# Altium integrated library AFE4490.IntLib: 1 symbol
Pins are listed as number, name and electrical type; pins without a type are passive.

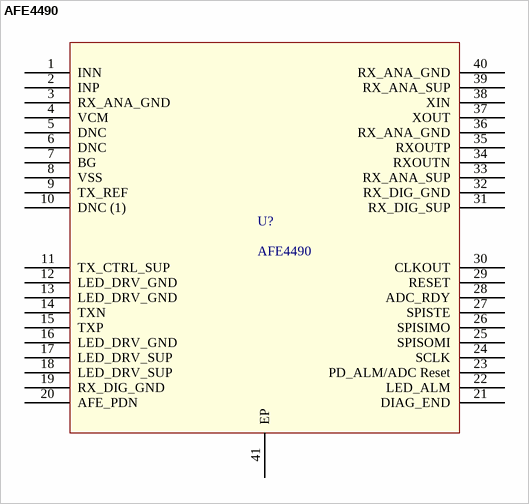
[diagram p0: symbol AFE4490]

## AFE4490
designator U?
Integrated Analog Front-End for Pulse Oximeters
footprint AFE4490QFN50P680X680X100_HS-41N (Integrated Analog Front-End for Pulse Oximeters AFE4490 Footprint)
pins: 1 INN "Receiver input pin. Connect to photodiode anode.", 2 INP "Receiver input pin. Connect to photodiode cathode.", 3 RX_ANA_GND "Rx analog ground pin. Connect to common board ground.", 4 VCM ""Input common-mode voltage output.", 5 DNC "Do not connect these pins. Leave as open-circuit.", 6 DNC "Do not connect these pins. Leave as open-circuit.", 7 BG ""Decoupling capacitor for internal band-gap voltage to ground", 8 VSS "Substrate ground. Connect to common board ground.", 9 TX_REF "Transmitter reference voltage, 0.75 V default after reset. Connect a 2.2-µF decoupling capacitor to ground.", 10 DNC (1) "Do not connect these pins. Leave as open-circuit.", 11 TX_CTRL_SUP "Transmit control supply pin (0.1-µF decoupling capacitor to ground)", 12 LED_DRV_GND "LED driver ground pin, H-bridge. Connect to common board ground.", 13 LED_DRV_GND "LED driver ground pin, H-bridge. Connect to common board ground.", 14 TXN "LED driver out B, H-bridge output. Connect to LED.", 15 TXP "LED driver out B, H-bridge output. Connect to LED.", 16 LED_DRV_GND "LED driver ground pin, H-bridge. Connect to common board ground.", 17 LED_DRV_SUP "LED driver supply pin, H-bridge. Connect to an external power supply capable of supplying the large LED current, which is drawn by this supply pin.", 18 LED_DRV_SUP "LED driver supply pin, H-bridge. Connect to an external power supply capable of supplying the large LED current, which is drawn by this supply pin.", 19 RX_DIG_GND, 20 AFE_PDN ""AFE-only power-down input; active low.", 21 DIAG_END ""Output signal that indicates completion of diagnostics.", 22 LED_ALM ""Output signal that indicates an LED cable fault.", 23 PD_ALM/ADC Reset ""Output signal that indicates a PD sensor or cable fault.", 24 SCLK "SPI clock pin", 25 SPISOMI "SPI serial out master in", 26 SPISIMO "SPI serial in master out", 27 SPISTE "SPI serial interface enable", 28 ADC_RDY ""Output signal that indicates ADC conversion completion.", 29 RESET ""AFE-only reset input, active low.", 30 CLKOUT ""Buffered 4-MHz output clock output.", 31 RX_DIG_SUP "Rx digital supply pin; 0.1-µF decoupling capacitor to ground", 32 RX_DIG_GND "Rx digital ground pin. Connect to common board ground.", 33 RX_ANA_SUP, 34 RXOUTN "External ADC negative input when in ADC bypass mode", 35 RXOUTP "External ADC positive input when in ADC bypass mode", 36 RX_ANA_GND "Rx analog ground pin. Connect to common board ground.", 37 XOUT ""Crystal oscillator pins.", 38 XIN ""Crystal oscillator pins.", 39 RX_ANA_SUP "Rx analog supply pin; 0.1-µF decoupling capacitor to ground", 40 RX_ANA_GND "Rx analog ground pin. Connect to common board ground.", 41 EP ""AFE-only power-down input; active low."